# Altium integrated library WE-PoE_rev15a-1.intlib: 20 symbols
Pins are listed as number, name and electrical type; pins without a type are passive.

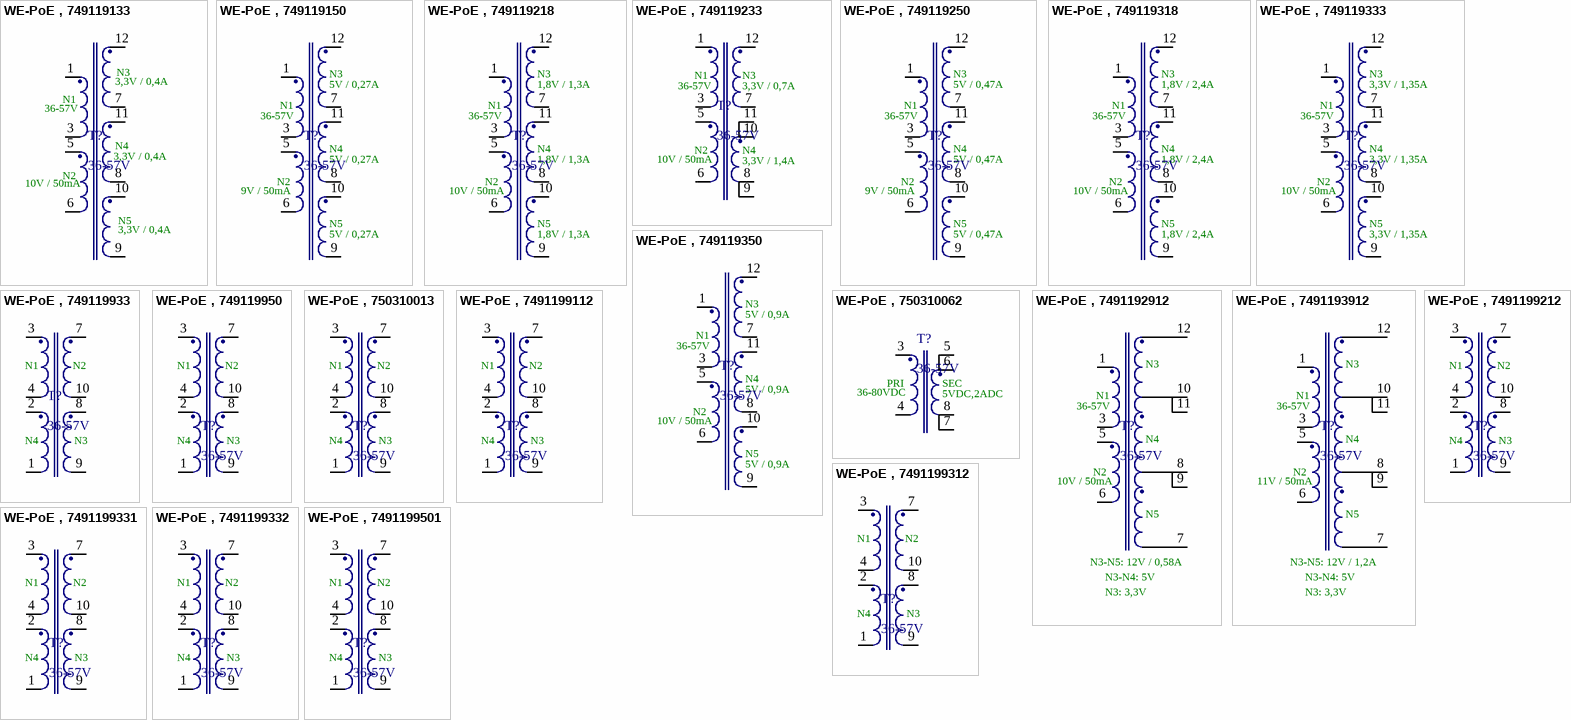
[diagram p0: symbols WE-PoE , 749119133 to WE-PoE , 7491199501]

## WE-PoE , 749119133
designator T?, comment 36-57V
Power over Ethernet Transformer WE-PoE , Ui=36-57V; PartNo: 749119133; Manufacturer: Würth Elektronik eiSos GmbH; Ui: 36-57V; ComponentLink1Description: Manufacturer; ComponentLink1URL: http://www.we-online.de; Created by: Otto Christin; Created Date: OCT 2013; ComponentLink2Description: Datasheet; ComponentLink2URL: http://www.we-online.de/katalog/media/pdf/749119133.pdf
footprint ER11/5 (SMD, 12-Leads, Body 12.9x9.2mm (max), Pitch 2.00mm, IPC Medium Density)
pins: 1, 3, 5, 6, 7, 8, 9, 10, 11, 12
text: N3; 3,3V / 0,4A; N1; N4; N2; 10V / 50mA; N5

## WE-PoE , 749119150
designator T?, comment 36-57V
Power over Ethernet Transformer WE-PoE , Ui=36-57V; PartNo: 749119150; Manufacturer: Würth Elektronik eiSos GmbH; Ui: 36-57V; ComponentLink1Description: Manufacturer; ComponentLink1URL: http://www.we-online.de; Created by: Otto Christin; Created Date: OCT 2013; ComponentLink2Description: Datasheet; ComponentLink2URL: http://www.we-online.de/katalog/media/pdf/749119150.pdf
footprint ER11/5 (SMD, 12-Leads, Body 12.9x9.2mm (max), Pitch 2.00mm, IPC Medium Density)
pins: 1, 3, 5, 6, 7, 8, 9, 10, 11, 12
text: N3; 5V / 0,27A; N1; N4; N2; 9V / 50mA; N5

## WE-PoE , 749119218
designator T?, comment 36-57V
Power over Ethernet Transformer WE-PoE , Ui=36-57V; PartNo: 749119218; Manufacturer: Würth Elektronik eiSos GmbH; Ui: 36-57V; ComponentLink1Description: Manufacturer; ComponentLink1URL: http://www.we-online.de; Created by: Otto Christin; Created Date: OCT 2013; ComponentLink2Description: Datasheet; ComponentLink2URL: http://www.we-online.de/katalog/media/pdf/749119218.pdf
footprint ER14.5/6 (SMD, 12-Leads, Body 16.3x12.0mm (max), Pitch 2.50mm, IPC Medium Density)
pins: 1, 3, 5, 6, 7, 8, 9, 10, 11, 12
text: N3; 1,8V / 1,3A; N1; N4; N2; 10V / 50mA; N5

## WE-PoE , 749119233
designator T?, comment 36-57V
Power over Ethernet Transformer WE-PoE , Ui=36-57V; PartNo: 749119233; Manufacturer: Würth Elektronik eiSos GmbH; Ui: 36-57V; ComponentLink1Description: Manufacturer; ComponentLink1URL: http://www.we-online.de; Created by: Otto Christin; Created Date: OCT 2013; ComponentLink2Description: Datasheet; ComponentLink2URL: http://www.we-online.de/katalog/media/pdf/749119233.pdf
footprint ER14.5/6 (SMD, 12-Leads, Body 16.3x12.0mm (max), Pitch 2.50mm, IPC Medium Density)
pins: 1, 3, 5, 6, 7, 8, 9, 10, 11, 12
text: N1; N3; 3,3V / 0,7A; N2; N4; 10V / 50mA; 3,3V / 1,4A

## WE-PoE , 749119250
designator T?, comment 36-57V
Power over Ethernet Transformer WE-PoE , Ui=36-57V; PartNo: 749119250; Manufacturer: Würth Elektronik eiSos GmbH; Ui: 36-57V; ComponentLink1Description: Manufacturer; ComponentLink1URL: http://www.we-online.de; Created by: Otto Christin; Created Date: OCT 2013; ComponentLink2Description: Datasheet; ComponentLink2URL: http://www.we-online.de/katalog/media/pdf/749119250.pdf
footprint ER14.5/6 (SMD, 12-Leads, Body 16.3x12.0mm (max), Pitch 2.50mm, IPC Medium Density)
pins: 1, 3, 5, 6, 7, 8, 9, 10, 11, 12
text: N3; 5V / 0,47A; N1; N4; N2; 9V / 50mA; N5

## WE-PoE , 749119318
designator T?, comment 36-57V
Power over Ethernet Transformer WE-PoE , Ui=36-57V; PartNo: 749119318; Manufacturer: Würth Elektronik eiSos GmbH; Ui: 36-57V; ComponentLink1Description: Manufacturer; ComponentLink1URL: http://www.we-online.de; Created by: Otto Christin; Created Date: OCT 2013; ComponentLink2Description: Datasheet; ComponentLink2URL: http://www.we-online.de/katalog/media/pdf/749119318.pdf
footprint EFD15 (SMD, 12-Leads, Body 17.5x16.0mm (max), Pitch 2.50mm, IPC Medium Density)
pins: 1, 3, 5, 6, 7, 8, 9, 10, 11, 12
text: N3; 1,8V / 2,4A; N1; N4; N2; 10V / 50mA; N5

## WE-PoE , 749119333
designator T?, comment 36-57V
Power over Ethernet Transformer WE-PoE , Ui=36-57V; PartNo: 749119333; Manufacturer: Würth Elektronik eiSos GmbH; Ui: 36-57V; ComponentLink1Description: Manufacturer; ComponentLink1URL: http://www.we-online.de; Created by: Otto Christin; Created Date: OCT 2013; ComponentLink2Description: Datasheet; ComponentLink2URL: http://www.we-online.de/katalog/media/pdf/749119333.pdf
footprint EFD15 (SMD, 12-Leads, Body 17.5x16.0mm (max), Pitch 2.50mm, IPC Medium Density)
pins: 1, 3, 5, 6, 7, 8, 9, 10, 11, 12
text: N3; 3,3V / 1,35A; N1; N4; N2; 10V / 50mA; N5

## WE-PoE , 749119350
designator T?, comment 36-57V
Power over Ethernet Transformer WE-PoE , Ui=36-57V; PartNo: 749119350; Manufacturer: Würth Elektronik eiSos GmbH; Ui: 36-57V; ComponentLink1Description: Manufacturer; ComponentLink1URL: http://www.we-online.de; Created by: Otto Christin; Created Date: OCT 2013; ComponentLink2Description: Datasheet; ComponentLink2URL: http://www.we-online.de/katalog/media/pdf/749119350.pdf
footprint EFD15 (SMD, 12-Leads, Body 17.5x16.0mm (max), Pitch 2.50mm, IPC Medium Density)
pins: 1, 3, 5, 6, 7, 8, 9, 10, 11, 12
text: N3; 5V / 0,9A; N1; N4; N2; 10V / 50mA; N5

## WE-PoE , 749119933
designator T?, comment 36-57V
Power over Ethernet Transformer WE-PoE , Ui=36-57V; PartNo: 749119933; Manufacturer: Würth Elektronik eiSos GmbH; Ui: 36-57V; ComponentLink1Description: Manufacturer; ComponentLink1URL: http://www.we-online.de; Created by: Otto Christin; Created Date: OCT 2013; ComponentLink2Description: Datasheet; ComponentLink2URL: http://www.we-online.de/katalog/media/pdf/749119933.pdf
footprint EP13 (SMD, 10-Leads, Body 13.5x10.0mm (max), Pitch 2.50mm, IPC Medium Density)
pins: 1, 2, 3, 4, 7, 8, 9, 10
text: N1; N2; N4; N3

## WE-PoE , 749119950
designator T?, comment 36-57V
Power over Ethernet Transformer WE-PoE , Ui=36-57V; PartNo: 749119950; Manufacturer: Würth Elektronik eiSos GmbH; Ui: 36-57V; ComponentLink1Description: Manufacturer; ComponentLink1URL: http://www.we-online.de; Created by: Otto Christin; Created Date: OCT 2013; ComponentLink2Description: Datasheet; ComponentLink2URL: http://www.we-online.de/katalog/media/pdf/749119950.pdf
footprint EP13 (SMD, 10-Leads, Body 13.5x10.0mm (max), Pitch 2.50mm, IPC Medium Density)
pins: 1, 2, 3, 4, 7, 8, 9, 10
text: N1; N2; N4; N3

## WE-PoE , 750310013
designator T?, comment 36-57V
Power over Ethernet Transformer WE-PoE , Ui=36-57V; PartNo: 750310013; Manufacturer: Würth Elektronik eiSos GmbH; Ui: 36-57V; ComponentLink1Description: Manufacturer; ComponentLink1URL: http://www.we-online.de; Created by: Otto Christin; Created Date: OCT 2013; ComponentLink2Description: Datasheet; ComponentLink2URL: http://www.we-online.de/katalog/media/pdf/750310013.pdf
footprint EP13 (SMD, 10-Leads, Body 13.5x10.0mm (max), Pitch 2.50mm, IPC Medium Density)
pins: 1, 2, 3, 4, 7, 8, 9, 10
text: N1; N2; N4; N3

## WE-PoE , 750310062
designator T?, comment 36-57V
Power over Ethernet Transformer WE-PoE , Ui=36-57V; PartNo: 750310062; Manufacturer: Würth Elektronik eiSos GmbH; Ui: 36-57V; ComponentLink1Description: Manufacturer; ComponentLink1URL: http://www.we-online.de; Created by: Otto Christin; Created Date: OCT 2013; ComponentLink2Description: Datasheet; ComponentLink2URL: http://www.we-online.de/katalog/media/pdf/750310062.pdf
footprint EP10 (SMD, 8-Leads, Body 13.3x12.2mm (max), Pitch 2.49mm, IPC Medium Density)
pins: 3, 4, 5, 6, 7, 8
text: PRI; SEC; 36-80VDC; 5VDC,2ADC

## WE-PoE , 7491192912
designator T?, comment 36-57V
Power over Ethernet Transformer WE-PoE , Ui=36-57V; PartNo: 7491192912; Manufacturer: Würth Elektronik eiSos GmbH; Ui: 36-57V; ComponentLink1Description: Manufacturer; ComponentLink1URL: http://www.we-online.de; Created by: Otto Christin; Created Date: OCT 2013; ComponentLink2Description: Datasheet; ComponentLink2URL: http://www.we-online.de/katalog/media/pdf/7491192912.pdf
footprint ER14.5/6 (SMD, 12-Leads, Body 16.3x12.0mm (max), Pitch 2.50mm, IPC Medium Density)
pins: 1, 3, 5, 6, 7, 8, 9, 10, 11, 12
text: N3; N1; N4; N2; 10V / 50mA; N5; N3-N5: 12V / 0,58A; N3-N4: 5V; N3: 3,3V

## WE-PoE , 7491193912
designator T?, comment 36-57V
Power over Ethernet Transformer WE-PoE , Ui=36-57V; PartNo: 7491193912; Manufacturer: Würth Elektronik eiSos GmbH; Ui: 36-57V; ComponentLink1Description: Manufacturer; ComponentLink1URL: http://www.we-online.de; Created by: Otto Christin; Created Date: OCT 2013; ComponentLink2Description: Datasheet; ComponentLink2URL: http://www.we-online.de/katalog/media/pdf/7491193912.pdf
footprint EFD15 (SMD, 12-Leads, Body 17.5x16.0mm (max), Pitch 2.50mm, IPC Medium Density)
pins: 1, 3, 5, 6, 7, 8, 9, 10, 11, 12
text: N3; N1; N4; N2; 11V / 50mA; N5; N3-N5: 12V / 1,2A; N3-N4: 5V; N3: 3,3V

## WE-PoE , 7491199112
designator T?, comment 36-57V
Power over Ethernet Transformer WE-PoE , Ui=36-57V; PartNo: 7491199112; Manufacturer: Würth Elektronik eiSos GmbH; Ui: 36-57V; ComponentLink1Description: Manufacturer; ComponentLink1URL: http://www.we-online.de; Created by: Otto Christin; Created Date: OCT 2013; ComponentLink2Description: Datasheet; ComponentLink2URL: http://www.we-online.de/katalog/media/pdf/7491199112.pdf
footprint EP13 (SMD, 10-Leads, Body 13.5x10.0mm (max), Pitch 2.50mm, IPC Medium Density)
pins: 1, 2, 3, 4, 7, 8, 9, 10
text: N1; N2; N4; N3

## WE-PoE , 7491199212
designator T?, comment 36-57V
Power over Ethernet Transformer WE-PoE , Ui=36-57V; PartNo: 7491199212; Manufacturer: Würth Elektronik eiSos GmbH; Ui: 36-57V; ComponentLink1Description: Manufacturer; ComponentLink1URL: http://www.we-online.de; Created by: Otto Christin; Created Date: OCT 2013; ComponentLink2Description: Datasheet; ComponentLink2URL: http://www.we-online.de/katalog/media/pdf/7491199212.pdf
footprint EP13 (SMD, 10-Leads, Body 13.5x10.0mm (max), Pitch 2.50mm, IPC Medium Density)
pins: 1, 2, 3, 4, 7, 8, 9, 10
text: N1; N2; N4; N3

## WE-PoE , 7491199312
designator T?, comment 36-57V
Power over Ethernet Transformer WE-PoE , Ui=36-57V; PartNo: 7491199312; Manufacturer: Würth Elektronik eiSos GmbH; Ui: 36-57V; ComponentLink1Description: Manufacturer; ComponentLink1URL: http://www.we-online.de; Created by: Otto Christin; Created Date: OCT 2013; ComponentLink2Description: Datasheet; ComponentLink2URL: http://www.we-online.de/katalog/media/pdf/7491199312.pdf
footprint EP13 (SMD, 10-Leads, Body 13.5x10.0mm (max), Pitch 2.50mm, IPC Medium Density)
pins: 1, 2, 3, 4, 7, 8, 9, 10
text: N1; N2; N4; N3

## WE-PoE , 7491199331
designator T?, comment 36-57V
Power over Ethernet Transformer WE-PoE , Ui=36-57V; PartNo: 7491199331; Manufacturer: Würth Elektronik eiSos GmbH; Ui: 36-57V; ComponentLink1Description: Manufacturer; ComponentLink1URL: http://www.we-online.de; Created by: Otto Christin; Created Date: OCT 2013; ComponentLink2Description: Datasheet; ComponentLink2URL: http://www.we-online.de/katalog/media/pdf/7491199331.pdf
footprint EP13 (SMD, 10-Leads, Body 13.5x10.0mm (max), Pitch 2.50mm, IPC Medium Density)
pins: 1, 2, 3, 4, 7, 8, 9, 10
text: N1; N2; N4; N3

## WE-PoE , 7491199332
designator T?, comment 36-57V
Power over Ethernet Transformer WE-PoE , Ui=36-57V; PartNo: 7491199332; Manufacturer: Würth Elektronik eiSos GmbH; Ui: 36-57V; ComponentLink1Description: Manufacturer; ComponentLink1URL: http://www.we-online.de; Created by: Otto Christin; Created Date: OCT 2013; ComponentLink2Description: Datasheet; ComponentLink2URL: http://www.we-online.de/katalog/media/pdf/7491199332.pdf
footprint EP13 (SMD, 10-Leads, Body 13.5x10.0mm (max), Pitch 2.50mm, IPC Medium Density)
pins: 1, 2, 3, 4, 7, 8, 9, 10
text: N1; N2; N4; N3

## WE-PoE , 7491199501
designator T?, comment 36-57V
Power over Ethernet Transformer WE-PoE , Ui=36-57V; PartNo: 7491199501; Manufacturer: Würth Elektronik eiSos GmbH; Ui: 36-57V; ComponentLink1Description: Manufacturer; ComponentLink1URL: http://www.we-online.de; Created by: Otto Christin; Created Date: OCT 2013; ComponentLink2Description: Datasheet; ComponentLink2URL: http://www.we-online.de/katalog/media/pdf/7491199501.pdf
footprint EP13 (SMD, 10-Leads, Body 13.5x10.0mm (max), Pitch 2.50mm, IPC Medium Density)
pins: 1, 2, 3, 4, 7, 8, 9, 10
text: N1; N2; N4; N3